# Altium schematic symbol library Color.SchLib: 19 symbols
Pins are listed as number, name and electrical type; pins without a type are passive.

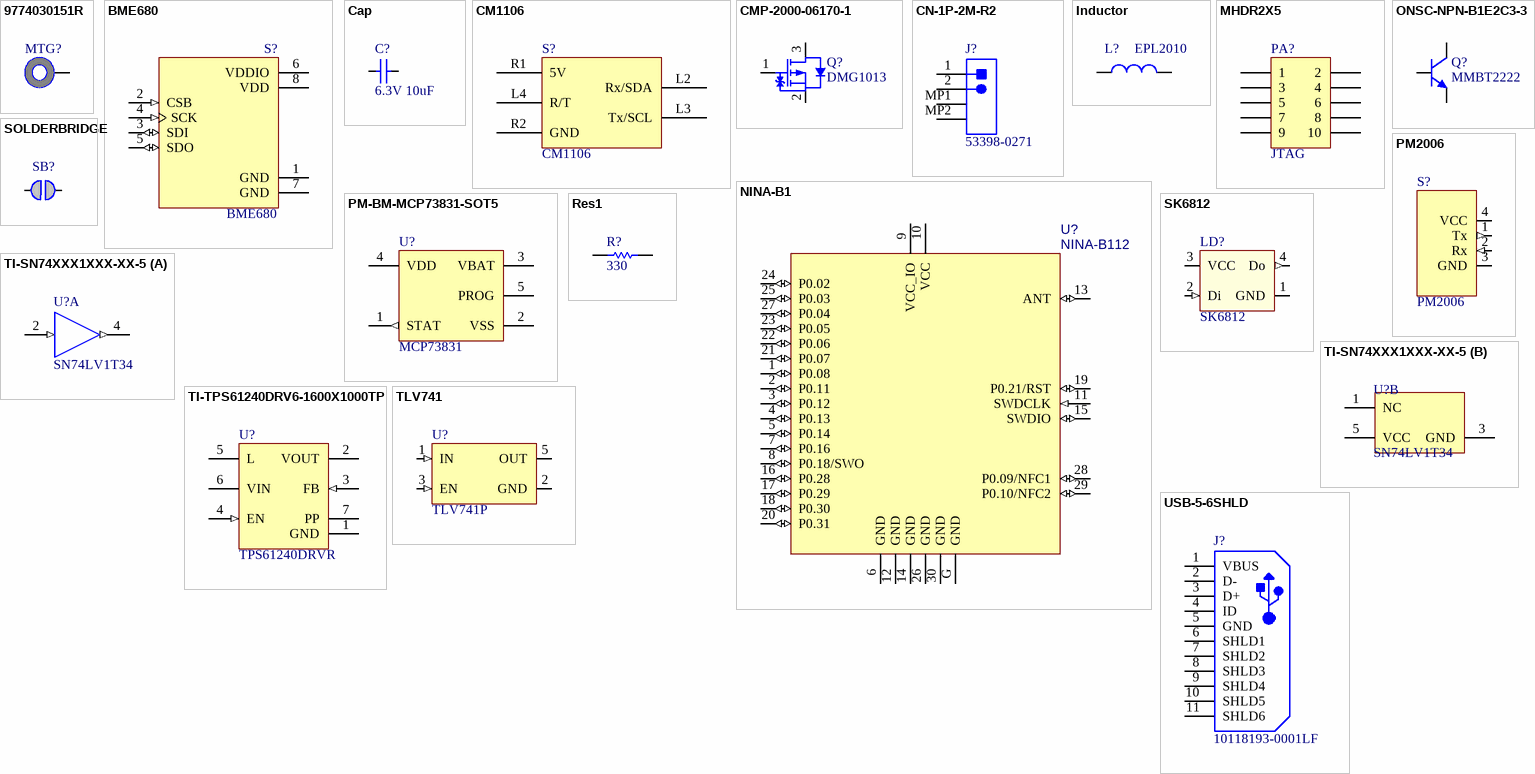
[diagram p0: symbols 9774030151R to USB-5-6SHLD]

## 9774030151R
designator MTG?, comment M2.5  (value not drawn)
WA-SMSI SMT Steel Spacer, M2.5 Thread Internal, Length 3mm; PartNumber: 9774030151R; InnerDiameter: 3.5mm; OuterDiameter: 5.1mm; PublishedDate: Dec. 2016; Publisher: Wurth Elektronik; ComponentLink1Description: Manufacturer; ComponentLink1URL: http://www.we-online.de; ComponentLink2Description: Datasheet; ComponentLink2URL: http://katalog.we-online.de/em/datasheet/9774030151R.pdf; Length: 3mm; Thread: M2.5; Packaging: Tape and Reel
footprint 9774030151
pins: 1

## BME680
designator S?
Integrated Environmental Unit; MF: Bosch; Price: 9.29 USD; MP: BME680; SnapEDA_Link: https://www.snapeda.com/symbols-footprints/BME680/Bosch%20Sensortec/view-part/?ref=snap; Availability: Good; Package: LGA-8 Bosch Tools; Value: *
footprint BME680
pins: 1 GND (power), 2 CSB (in), 3 SDI (io), 4 SCK (in), 5 SDO (io), 6 VDDIO (power), 7 GND (power), 8 VDD (power)

## Cap
designator C?  value 6.3V 10uF  (hidden comment: Cap)
Capacitor; Published: 8-Jun-2000; LatestRevisionDate: 17-Jul-2002; LatestRevisionNote: Re-released for DXP Platform.; PackageReference: RAD-0.3; Publisher: Altium Limited; PackageDescription: Radial Cap, Thru-Hole; 2 Leads; 0.3 in Pin Spacing
simulation model CAP (Capacitor)
signal-integrity model Cap
footprint CAPC1608X90N_2
pins: 1, 2

## CM1106
designator S?
MINI INFRARED CO2 MODULE CM1106 SERIES SINGLE BEAM
footprint CM1106
footprint CM1106
pins: D1 L1 hidden, L2 Rx/SDA, L3 Tx/SCL, L4 R/T "Output mode Sel : GND to i2c", L5 CA hidden, R1 5V, R2 GND, R3 A hidden, R4 PWM hidden

## CMP-2000-06170-1
designator Q?, comment DMG1013
P-Channel Enhancement Mode MOSFET, 310 mW, 20 V, -55 to 150 degC, 3-Pin SOT-323, RoHS, Tape and Reel; Manufacturer: Diodes Inc; Qg Gate Charge: 0.622nC; Drain-Source On Resistance-Max: 750mO; Rated Power Dissipation: 310mW; Drain-to-Source Voltage [Vdss]: 20V; Package Reference: SOT323; Datasheet Version: Rev. 3-2, 09/2013; Package Description: 3-Pin Small Outline Transistor, Body 2 x 1.25 mm, Pitch 0.65 mm; Mounting Technology: SurfaceMount; Manufacturer URL: http://www.diodes.com/; Datasheet URL: http://www.diodes.com/_files/datasheets/ds31861.pdf; Channel Type: P-Channel
footprint DIOD-SOT323-3_V (SOT323, 3-Leads, Body 2.2x1.35mm, Pitch 0.65mm)
pins: 1 G, 2 S, 3 D

## CN-1P-2M-R2
designator J?, comment 53398-0271
Male Header, Pitch 1.25 mm, 1 x 2 Position, Height 4.7 mm, -40 to 85 degC, RoHS, Tape and Reel; Manufacturer: Molex; Voltage Rating: 125V; Glow Wire Compliant: Non-compliant; Pitch: 1.25mm; Number of Positions: 2; Contact Resistance: 20mOhm; Insulation Resistance: 100MOhm; Current Rating: 1A; Mounting Technology: SurfaceMount; Colour: Natural; Mount: SurfaceMount; Termination: Solder; Packaging: TapeandReel; REACH SVHC: Unknown; Voltage Rating (AC): 125V; Housing Colour: Natural; Manufacturer URL: http://www.molex.com/; Max Operating Temperature: 85degC; Gender: Male; Lead Free: LeadFree; RoHSCompliant: True; Contact Plating: Tin; Package Reference: 53398-0271; Contact Material: Tin; Orientation: Vertical; Datasheet URL: http://www.molex.com/pdm_docs/sd/533980271_sd.pdf; Working Voltage: 125V; Flammability Rating: UL94V-0; Number of Contacts: 2; Package Description: Male Header, Pitch 1.25 mm, 1 x 2 Position, Height 4.7 mm; Datasheet Version: Rev. J, 09/2015; Number of Circuits: 2; Number of Rows: 1; Radiation Hardening: No; Voltage Rating (DC): 125V; Min Operating Temperature: -40degC; Housing Material: Nylon; Package Quantity: 1000
footprint MOLX-53398-0271_V (Header, 2-Leads, Body 7.65x3.7mm, Pitch 1.25mm)
pins: 1, 2, MP1, MP2

## Inductor
designator L?, comment value EPL2010  (hidden comment: EPL2010-152)
Inductor; Code_IEC: 1005; Published: 8-Jun-2000; LatestRevisionDate: 29-May-2009; LatestRevisionNote: IPC-7351 Footprint Added.; PackageReference: 0402-A; Publisher: Altium Limited; PackageDescription: Chip Inductor; Code_JEITA: 0402
simulation model INDUCTOR (Inductor)
signal-integrity model Inductor
footprint EPL2010
pins: 1, 2

## MHDR2X5
designator PA?, comment JTAG
Header, 5-Pin, Dual row; LatestRevisionDate: 17-Jul-2002; LatestRevisionNote: Re-released for DXP Platform.; Publisher: Altium Limited
footprint MHDR2X5 (Connector; Header; 5x2 Position)
signal-integrity model Connector
pins: 1, 2, 3, 4, 5, 6, 7, 8, 9, 10

## NINA-B1
designator U?, comment NINA-B112
Stand-alone Bluetooth low energy module; Manufacturer: u-blox; Part Description: Stand-alone Bluetooth low energy module; Value: NINA-B1
footprint NINA-B1 (Stand-alone Bluetooth low energy module)
footprint NINA-B1 (Stand-alone Bluetooth low energy module)
pins: 1 P0.08 (io), 2 P0.11 (io), 3 P0.12 (io), 4 P0.13 (io), 5 P0.14 (io), 6 GND (power), 7 P0.16 (io), 8 P0.18/SWO (io), 9 VCC_IO (power), 10 VCC (power), 11 SWDCLK (in), 12 GND (power), 13 ANT (io), 14 GND (power), 15 SWDIO (io), 16 P0.28 (io), 17 P0.29 (io), 18 P0.30 (io), 19 P0.21/RST (io), 20 P0.31 (io), 21 P0.07 (io), 22 P0.06 (io), 23 P0.05 (io), 24 P0.02 (io), 25 P0.03 (io), 26 GND (power), 27 P0.04 (io), 28 P0.09/NFC1 (io), 29 P0.10/NFC2 (io), 30 GND (power), G GND (power)

## ONSC-NPN-B1E2C3-3
designator Q?, comment MMBT2222
General Purpose Transistor, NPN Silicon, 3-Pin SC70, Pb-Free, Tape and Reel; PartNumber: MMBT2222AWT1G; Manufacturer: On Semiconductor; IC Continuous (A): 0.6; fT Min (MHz): 300; ComponentLink3URL: http://www.onsemi.cn/pub_link/Collateral/419-04.PDF; ComponentLink2URL: http://www.onsemi.cn/pub_link/Collateral/MMBT2222AWT1-D.PDF; DatasheetVersion: Rev. 6; ComponentLink1Description: Manufacturer URL; PackageReference: SC-70-3-419-04; Packing: Tape and Reel; Polarity: NPN; ComponentLink1URL: http://www.onsemi.com/; RoHS: TRUE; PackageVersion: Rev. N, 11/2008; Mounting Technology: Surface Mount; ComponentLink2Description: Datasheet; PackageDescription: 3-Pin Small Outline Transistor, Body 2 x 1.25 mm, Pitch 0.65 mm; ComponentLink3Description: Package Specification
footprint ONSC-SC-70-3-419-04_V (SOT23, 3-Leads, Body 2x1.25mm, Pitch 0.65mm)
pins: 1 B, 2 E, 3 C

## PM2006
designator S?
footprint PM2006
pins: 1 Tx (out), 2 Rx (in), 3 GND (power), 4 VCC (power)

## PM-BM-MCP73831-SOT5
designator U?, comment MCP73831
Miniature Single-Cell, Fully Integrated Li-Ion, Li-Polymer Charge Management Controller, 4.2V, 5-Pin SOT-23, Industrial Temperature, Tape and Reel; PackageReference: SOT-23-OT5; PackageDescription: 5-Lead Plastic Small Outline Transistor (OT) [SOT-23]; PackageVersion: revBB, Aug-2009; DatasheetVersion: revE, Sep-2008; Code_IPC: SOT23-5
footprint SOT-23-OT5_M (SOT23, 5-Leads, Body 2.9x1.6mm, Pitch 0.95mm, Lead Span 2.7mm, IPC Low Density)
footprint SOT-23-OT5_L (SOT23, 5-Leads, Body 2.9x1.6mm, Pitch 0.95mm, Lead Span 2.7mm, IPC High Density)
footprint SOT-23-OT5_N (SOT23, 5-Leads, Body 2.9x1.6mm, Pitch 0.95mm, Lead Span 2.7mm, IPC Medium Density)
pins: 1 STAT (out), 2 VSS (power), 3 VBAT (power), 4 VDD (power), 5 PROG

## Res1
designator R?  value 330  (hidden comment: Res1)
Resistor; Published: 8-Jun-2000; LatestRevisionDate: 17-Jul-2002; LatestRevisionNote: Re-released for DXP Platform.; PackageReference: AXIAL-0.3; Publisher: Altium Limited; PackageDescription: Axial Device, Thru-Hole; 2 Leads; 0.3 in Pin Spacing
simulation model RESISTOR (Resistor)
signal-integrity model Res
footprint RESC1608X55N_2
pins: 1, 2

## SK6812
designator LD?
footprint WS2812B
pins: 1 GND (power), 2 Di (in), 3 VCC (power), 4 Do (out)

## SOLDERBRIDGE
designator SB?, comment Solderbridge  (value not drawn)  (no BOM)
Artikkelnr Noca: N.A.; Part Number: Solderbridge; Manufacturer: *; Manufacturer Part Number: *; Datasheet: *; LatestRevisionDate: 2009-12-14; Pin Count: 2; Publisher: Nordic Semiconductor; Published: 2009-12-14; Value: Solderbridge; Note: *; Supplier: *; Supplier part number: *; 2nd source Supplier: *; 2nd source part number: *; Footprint Doc: Solderbridge; Artikkelnr Simpro: N.A.
footprint Solderbridge
pins: 1 0, 2 1

## TI-SN74XXX1XXX-XX-5
designator U?, comment SN74LV1T34
Single Power Supply BUFFER Logic Level Shifter (no enable), DBV0005A, LARGE T&R; Manufacturer: Texas Instruments; F @ Nom Voltage(Max)(Mhz): 50; Logic: True; ICC @ Nom Voltage(Max)(mA): 0.01; Output Drive (IOL/IOH)(Max)(mA): 8/-8; Special Features: 1.8V to 3.3V Up Translation,3.3V to 1.8V Down Translation,5V Input Tolerant; VCC(Max)(V): 5.5; Technology Family: LV1T; tpd @ Nom Voltage(Max)(ns): 14.5,9.5,8.0,6.5; Rating: Catalog; Sub-Family: Non-Inverting Buffer/Driver; Input Type: TTL; VCC(Min)(V): 1.6; 3-State Output: Yes; Bits(#): 1; Voltage(Nom)(V): 1.8,2.5,3.3,5.5; Output Type: CMOS; PackageReference: DBV0005A; DatasheetVersion: SCLS743A; Schmitt Trigger: No; Operating Temperature Range(C): -40 to 125; Generic Part Number: SN74LV1T34
footprint DBV0005A_M (SOT23, 5-Leads, Body 3.05x1.75mm, Pitch 0.95mm, IPC Low Density)
footprint DBV0005A_N (SOT23, 5-Leads, Body 3.05x1.75mm, Pitch 0.95mm, IPC Medium Density)
footprint DBV0005A_L (SOT23, 5-Leads, Body 3.05x1.75mm, Pitch 0.95mm, IPC High Density)
part A pins: 2 A (in) "Input", 4 Y (out) "Output"
part B pins: 1 NC "Ground", 3 GND (power) "Ground Pin", 5 VCC (power) "Power Pin"

## TI-TPS61240DRV6-1600X1000TP
designator U?, comment TPS61240DRVR
Boost Voltage Converter with 2.3 to 5.5 V Input and 5 V Output, 6-Pin SON (DRV), Green (RoHS & no Sb/Br); Manufacturer: Texas Instruments; Synchronous Rectification: TRUE; Preset Vout(V): 5; SubFamily: Step-Up Regulator; Regulated Outputs(#): 1; Switching Frequency(Max)(kHz): 4000; Vin(Max)(V): 5.5; Vin(Min)(V): 2.3; Topology: Boost; Vout(Min)(V): 5; DatasheetVersion: SLVS806B; ComponentLink1Description: Datasheet; PackageReference: DRV6-1600X1000TP; Eco-Plan: Green (RoHS & no Sb/Br); PackageDescription: 6-Pin Plastic Small Outline No-Lead, 2 x 2 x 0.8 mm Body, 0.65 mm Pitch, Exposed Pad; PackageVersion: revE, Oct-2010; Vout(Max)(V): 5; PartNumber: TPS61240DRVR; ComponentLink2URL: http://www.ti.com/litv/pdf/mpds216d; ComponentLink1URL: http://www.ti.com/general/docs/lit/getliterature.tsp?genericPartNumber=TPS61240&fileType=pdf; ComponentLink2Description: Package Specification; Mounting Technology: Surface Mount
footprint DRV6-1600X1000TP (SON, 6-Leads, Body 2x2mm, Pitch 0.65mm, Thermal Pad 1.6x1mm, TI Recommended)
pins: 1 GND (power) "Ground", 2 VOUT (power) "Output", 3 FB (in) "Feedback input", 4 EN (in) "Enable", 5 L (power) "Boost and rectifying switch input", 6 VIN (power) "Supply voltage", 7 PP (power) "Exposed thermal pad"

## TLV741
designator U?, comment TLV741P
Low-Dropout Regulator With Foldback Current Limit for Portable / Devices
footprint SOT23-5
pins: 1 IN (in) "NC", 2 GND (power) "NC", 3 EN (in) "NC", 5 OUT (power) "NC"

## USB-5-6SHLD
designator J?, comment 10118193-0001LF
Micro USB B Type Receptacle, -55 to 85 degC, 5-Pin SMD, RoHS, Tape and Reel; Manufacturer: FCI; Insulation Resistance: 1000MOhms; Gender: Female; Current Rating: 1.8A; Number of Contacts: 5Contact; Connector Type: MicroUSBTypeBreceptacle; Mounting Angle: Right; Datasheet Version: Rev. C, 05/2015; Packaging: Reel; Product Category: USBConnectors; Standard: USB2.0; Factory Pack Quantity: 1200; Operating Temperature Range: -55Cto+85C; Termination Style: SMD/SMT; Datasheet URL: http://datasheet.octopart.com/10118193-0001LF-FCI-datasheet-55953155.pdf; Contact Material: CopperAlloy; RoHS: Details; Contact Plating: Gold; Flammability Rating: UL94V-0; Manufacturer URL: http://www.fci.com/; Brand: FCI; Product: MicroUSBTypeBConnectors; Color: Black
footprint FCI-10118193-0001LF-5_V (Micro, USB-B, 5-Leads, Body 7.86x5.05mm, Pitch 0.65 mm)
pins: 1 VBUS, 2 D-, 3 D+, 4 ID, 5 GND, 6 SHLD1, 7 SHLD2, 8 SHLD3, 9 SHLD4, 10 SHLD5, 11 SHLD6